# Altium footprint library WSL2726.PcbLib: 1 footprints
Each footprint in its own frame and in the unit in brackets; x right, y up, seen from the top. Pads: shape width x height; smd on the part's side, far side on the other; paste and mask are expansions set on the pad; w line width, h text height; cw(c..) or ccw(c..) is an arc to the next point about the centre after c.
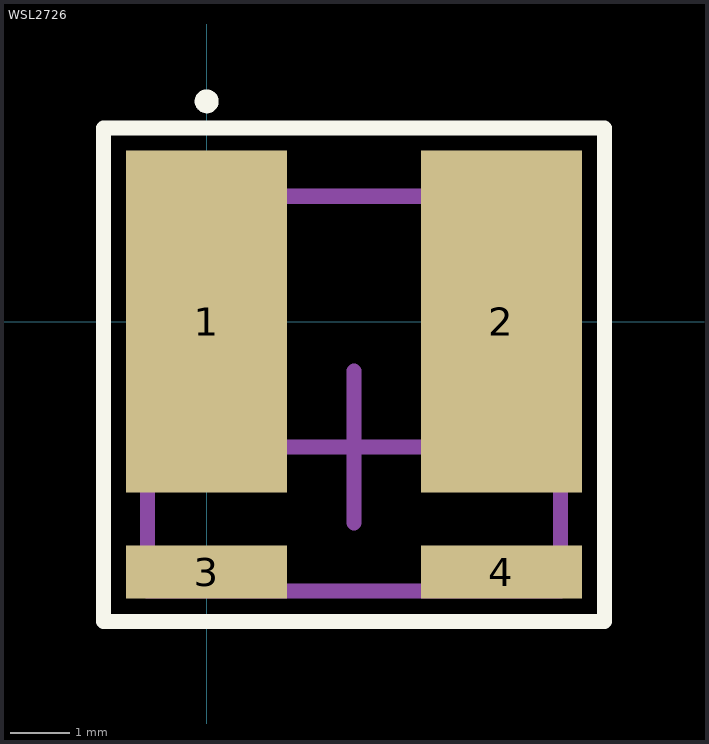
[diagram p0: the footprint, top view; thin cyan lines are the x and y axes]

## WSL2726 [mil]
pads (4):
  rect 106x225 smd paste+0 mask+0: 1(0,0) 2(194,0)
  rect 106x35 smd paste+0 mask+0: 3(0,-165) 4(194,-165)
Top Overlay:
  circle w7.87: c0,145 r3.94
  lines w10: -68,-197.5 -68,127.5 262,127.5 262,-197.5 -68,-197.5
Top Designator:
  text ".Designator" at -202.9,-54.99 h60
3D Body:
  lines w10: -39,-177.5 -39,70.5 -39,82.5 233,82.5 233,-177.5 -39,-177.5
Center Cross:
  lines w10: 47,-82.5 97,-82.5 ; 97,-132.5 97,-82.5 ; 97,-32.5 97,-82.5 ; 147,-82.5 97,-82.5
3D body "WSL2726 (0.0013).step": height 106.01, standoff 0.5, extent -38.83,-177.5 232.83,82.34